# Altium schematic symbol library Sensors.SchLib: 1 symbol
Pins are listed as number, name and electrical type; pins without a type are passive.

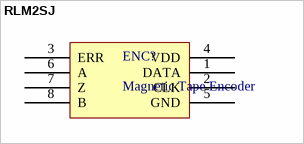
[diagram p0: symbol RLM2SJ]

## RLM2SJ
designator ENC?, comment Magnetic Tape Encoder
footprint RLM2; pin to pad 1>1+0
pins: 1 DATA, 2 CLK, 3 ERR, 4 VDD, 5 GND, 6 A, 7 Z, 8 B